# Altium integrated library TPS22959DNYT.IntLib: 1 symbol
Pins are listed as number, name and electrical type; pins without a type are passive.

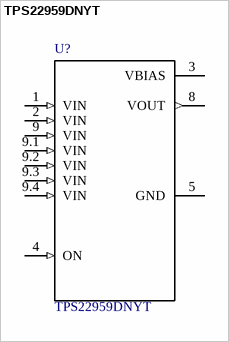
[diagram p0: symbol TPS22959DNYT]

## TPS22959DNYT
designator U?
5.5V, 15A, 4.4mÎ© Load Switch with Quick Output Discharge 8-WSON -40 to 85; MF: Texas Instruments; Package: WSON-8 Texas Instruments; Digi-Key_Part_Number: 296-47872-1-ND; Digi-Key_Purchase_URL: https://www.digikey.ca/product-detail/en/texas-instruments/TPS22959DNYT/296-47872-1-ND/8133221?utm_source=snapeda&utm_medium=aggregator&utm_campaign=symbol; SnapEDA_Link: https://www.snapeda.com/parts/TPS22959DNYT/Texas%20Instruments/view-part/?ref=snap; MP: TPS22959DNYT; Value: *
footprint *IC_TPS22959DNYT_TPS22959DNYT(Primary)
pins: 1 VIN (in), 2 VIN (in), 3 VBIAS (power), 4 ON (in), 5 GND (power), 8 VOUT (out), 9 VIN (in), 9.1 VIN (in), 9.2 VIN (in), 9.3 VIN (in), 9.4 VIN (in)